# EAGLE library part M29F032D (library st-microelectronics)
SGS THOMPSON (ST) 4 MEG X 8 FLASH 70NS
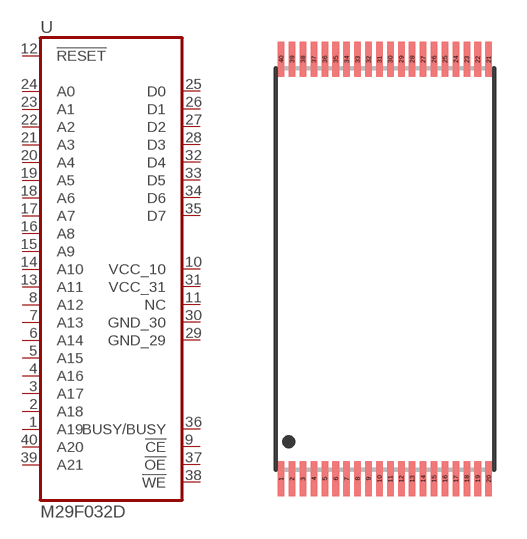
[diagram p31: symbol with the pads of TSOP40; footprint TSOP40]

Designator prefix U

## M29F032D  [TSOP40]
1  A19  in
2  A18  in
3  A17  in
4  A16  in
5  A15  in
6  A14  in
7  A13  in
8  A12  in
9  !CE  in
10  VCC_10  pwr
11  NC  nc
12  !RESET  in
13  A11  in
14  A10  in
15  A9  in
16  A8  in
17  A7  in
18  A6  in
19  A5  in
20  A4  in
21  A3  in
22  A2  in
23  A1  in
24  A0  in
25  D0  hiz
26  D1  hiz
27  D2  hiz
28  D3  hiz
29  GND_29  pwr
30  GND_30  pwr
31  VCC_31  pwr
32  D4  hiz
33  D5  hiz
34  D6  hiz
35  D7  hiz
36  BUSY/BUSY  hiz
37  !OE  in
38  !WE  in
39  A21  in
40  A20  in

## Footprint TSOP40 (pad centres in mm)
Thin Small Outline Plastic Package
smd 0.3 x 1.6: 1 -4.75,-9.6; 2 -4.25,-9.6; 3 -3.75,-9.6; 4 -3.25,-9.6; 5 -2.75,-9.6; 6 -2.25,-9.6; 7 -1.75,-9.6; 8 -1.25,-9.6; 9 -0.75,-9.6; 10 -0.25,-9.6; 11 0.25,-9.6; 12 0.75,-9.6; 13 1.25,-9.6; 14 1.75,-9.6; 15 2.25,-9.6; 16 2.75,-9.6; 17 3.25,-9.6; 18 3.75,-9.6; 19 4.25,-9.6; 20 4.75,-9.6; 21 4.75,9.6; 22 4.25,9.6; 23 3.75,9.6; 24 3.25,9.6; 25 2.75,9.6; 26 2.25,9.6; 27 1.75,9.6; 28 1.25,9.6; 29 0.75,9.6; 30 0.25,9.6; 31 -0.25,9.6; 32 -0.75,9.6; 33 -1.25,9.6; 34 -1.75,9.6; 35 -2.25,9.6; 36 -2.75,9.6; 37 -3.25,9.6; 38 -3.75,9.6; 39 -4.25,9.6; 40 -4.75,9.6